# Altium footprint library PcbLib.PcbLib: 1 footprints
Each footprint in its own frame and in the unit in brackets; x right, y up, seen from the top. Pads: shape width x height; smd on the part's side, far side on the other; paste and mask are expansions set on the pad; w line width, h text height; cw(c..) or ccw(c..) is an arc to the next point about the centre after c.
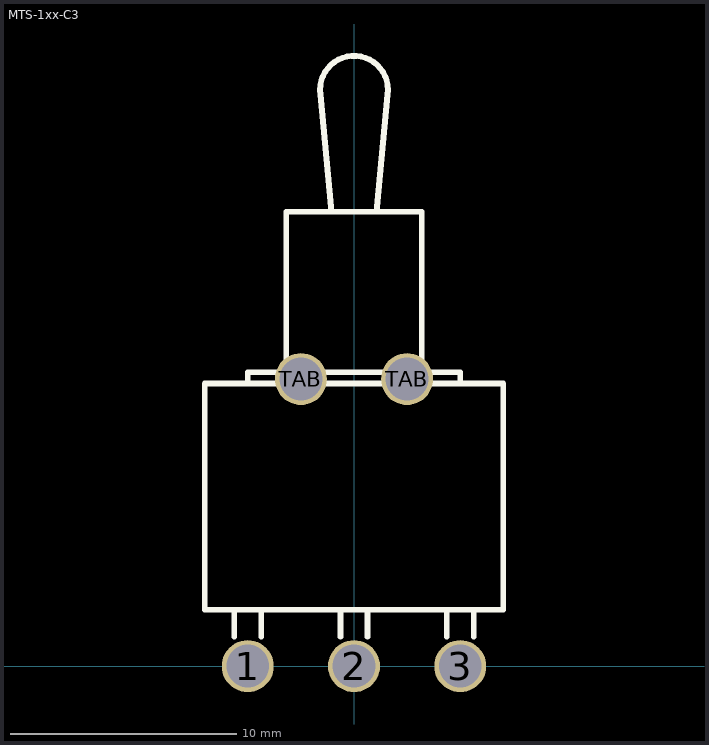
[diagram p0: the footprint, top view; thin cyan lines are the x and y axes]

## MTS-1xx-C3 [mm] "MTS-1xx-C3 TUMBLER RIGHT ANGLE"
height 7.9
pads (5):
  round 2.3 hole 1.9: 1(-4.7,0) 2(0,0) 3(4.7,0) TAB(-2.35,12.7) TAB(2.35,12.7)
Top Overlay:
  lines w0.254: -5.3,1.3 -5.3,2.5 ; -4.7,12.5 -4.7,13 4.7,13 4.7,12.5 ; -4.1,1.3 -4.1,2.5 ; -3,13 -3,20.1 3,20.1 3,13 ; -1,20.1 -1.5,25.5 cw(c0,25.5) 1.5,25.5 1,20.1 ; -0.6,1.3 -0.6,2.5 ; 0.6,1.3 0.6,2.5 ; 4.1,1.3 4.1,2.5 ; 5.3,1.3 5.3,2.5 ; -6.6,2.5 6.6,2.5 6.6,12.5 -6.6,12.5 -6.6,2.5